# EAGLE library part FT230X (library wheat)
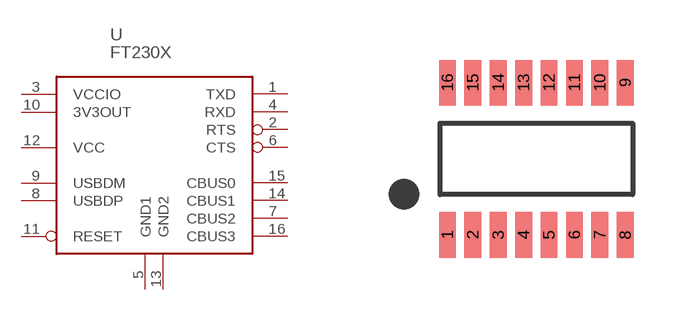
[diagram p180: symbol with the pads of SSOP16; footprint SSOP16]

Designator prefix -

## FT230XS  [SSOP16]
1  TXD
2  RTS
3  VCCIO  pas
4  RXD
5  GND1  pas
6  CTS
7  CBUS2
8  USBDP
9  USBDM
10  3V3OUT  pas
11  RESET  in
12  VCC  pas
13  GND2  pas
14  CBUS1
15  CBUS0
16  CBUS3

## Footprint SSOP16 (pad centres in mm)
smd 0.419 x 1.143: 1 -2.223,-1.905; 2 -1.587,-1.905; 3 -0.953,-1.905; 4 -0.318,-1.905; 5 0.318,-1.905; 6 0.953,-1.905; 7 1.587,-1.905; 8 2.223,-1.905; 9 2.223,1.905; 10 1.587,1.905; 11 0.953,1.905; 12 0.318,1.905; 13 -0.318,1.905; 14 -0.953,1.905; 15 -1.587,1.905; 16 -2.223,1.905